# EAGLE library part TPS6300X (library CNTRL_BOARD)
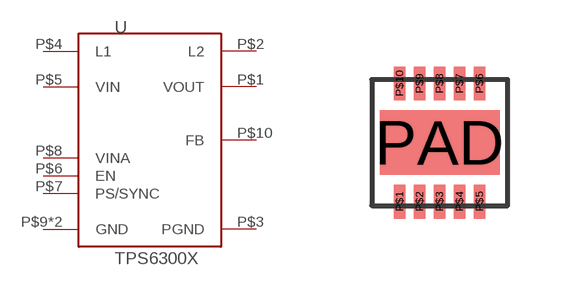
[diagram p4: symbol with the pads of QFN10_POWERPAD; footprint QFN10_POWERPAD]

Designator prefix U

## TPS6300X  [QFN10_POWERPAD]
P$1  VOUT  out
P$2  L2  in
P$3  PGND  in
P$4  L1  in
P$5  VIN  in
P$6  EN  in
P$7  PS/SYNC  in
P$8  VINA  in
P$9  GND  in
P$10  FB  in
PAD  GND  in

## Footprint QFN10_POWERPAD (pad centres in mm)
smd 0.28 x 0.85: P$1 0,0; P$2 0.5,0; P$3 1,0; P$4 1.5,0; P$5 2,0; P$6 2,2.95; P$7 1.5,2.95; P$8 1,2.95; P$9 0.5,2.95; P$10 0,2.95
smd 3 x 1.6: PAD 1,1.475